# EAGLE library part 2N7002DW (library mylib)
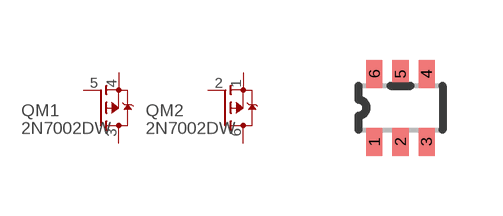
[diagram p130: symbol with the pads of SOT50P200X125-6N; footprint SOT50P200X125-6N]

Designator prefix Q; gates M1=NMOS-3 M2=NMOS-3

## 2N7002DW  [SOT50P200X125-6N]
1  M2:D  pas
2  M2:G  pas
3  M1:S  pas
4  M1:D  pas
5  M1:G  pas
6  M2:S  pas

## Footprint SOT50P200X125-6N (pad centres in mm)
smd 0.4 x 0.7: 1 -0.65,-0.85; 2 0,-0.85; 3 0.65,-0.85; 4 0.65,0.85; 5 0,0.85; 6 -0.65,0.85